# EAGLE library part EMBASE20 (library MesConnecteurs)
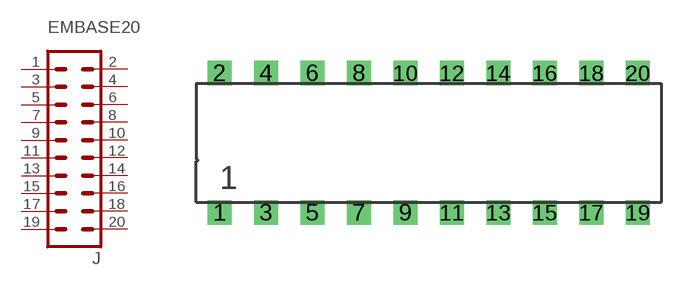
[diagram p0: symbol with the pads of EMBASE_DIL_20; footprint EMBASE_DIL_20]

Designator prefix J

## EMBASE20  [EMBASE_DIL_20]
1  1  pas
2  2  pas
3  3  pas
4  4  pas
5  5  pas
6  6  pas
7  7  pas
8  8  pas
9  9  pas
10  10  pas
11  11  pas
12  12  pas
13  13  pas
14  14  pas
15  15  pas
16  16  pas
17  17  pas
18  18  pas
19  19  pas
20  20  pas

## Footprint EMBASE_DIL_20 (pad centres in mm)
drill 0.813 square: 1 -10.16,-3.81; 2 -10.16,3.81; 3 -7.62,-3.81; 4 -7.62,3.81; 5 -5.08,-3.81; 6 -5.08,3.81; 7 -2.54,-3.81; 8 -2.54,3.81; 9 0,-3.81; 10 0,3.81; 11 2.54,-3.81; 12 2.54,3.81; 13 5.08,-3.81; 14 5.08,3.81; 15 7.62,-3.81; 16 7.62,3.81; 17 10.16,-3.81; 18 10.16,3.81; 19 12.7,-3.81; 20 12.7,3.81